# EAGLE library part DRV8860 (library Sparky)
DRV8860x 38-V 8-Channel Serial Interface Low-Side Driver HTSSOP-16 Package
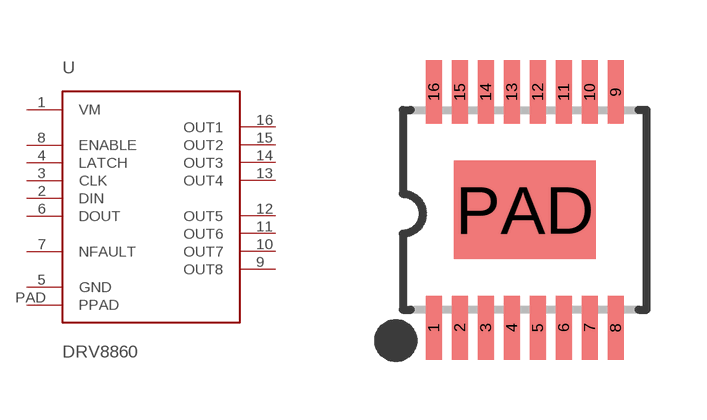
[diagram p21: symbol with the pads of HTSSOP-16; footprint HTSSOP-16]

Designator prefix -

## DRV8860HTSSOP-16  [HTSSOP-16]
1  VM  pwr
2  DIN  in
3  CLK  in
4  LATCH  in
5  GND  pwr
6  DOUT  out
7  NFAULT  in
8  ENABLE  in
9  OUT8
10  OUT7
11  OUT6
12  OUT5
13  OUT4
14  OUT3
15  OUT2
16  OUT1
PAD  PPAD  pwr

## Footprint HTSSOP-16 (pad centres in mm)
smd 0.4 x 1.6: 1 -2.275,-2.95; 2 -1.625,-2.95; 3 -0.975,-2.95; 4 -0.325,-2.95; 5 0.325,-2.95; 6 0.975,-2.95; 7 1.625,-2.95; 8 2.275,-2.95; 9 2.275,2.95; 10 1.625,2.95; 11 0.975,2.95; 12 0.325,2.95; 13 -0.325,2.95; 14 -0.975,2.95; 15 -1.625,2.95; 16 -2.275,2.95
smd 3.55 x 2.46: PAD 0,0